# EAGLE library part LTC3634 (library PowerProducts)
LT-Spice library generated with : ltspice.ulp from: D:/Program Files (x86)/LTC/LTspiceIV/lib/sym/PowerProducts/LTC3642*.asy at 07.10.2012 18:27:42
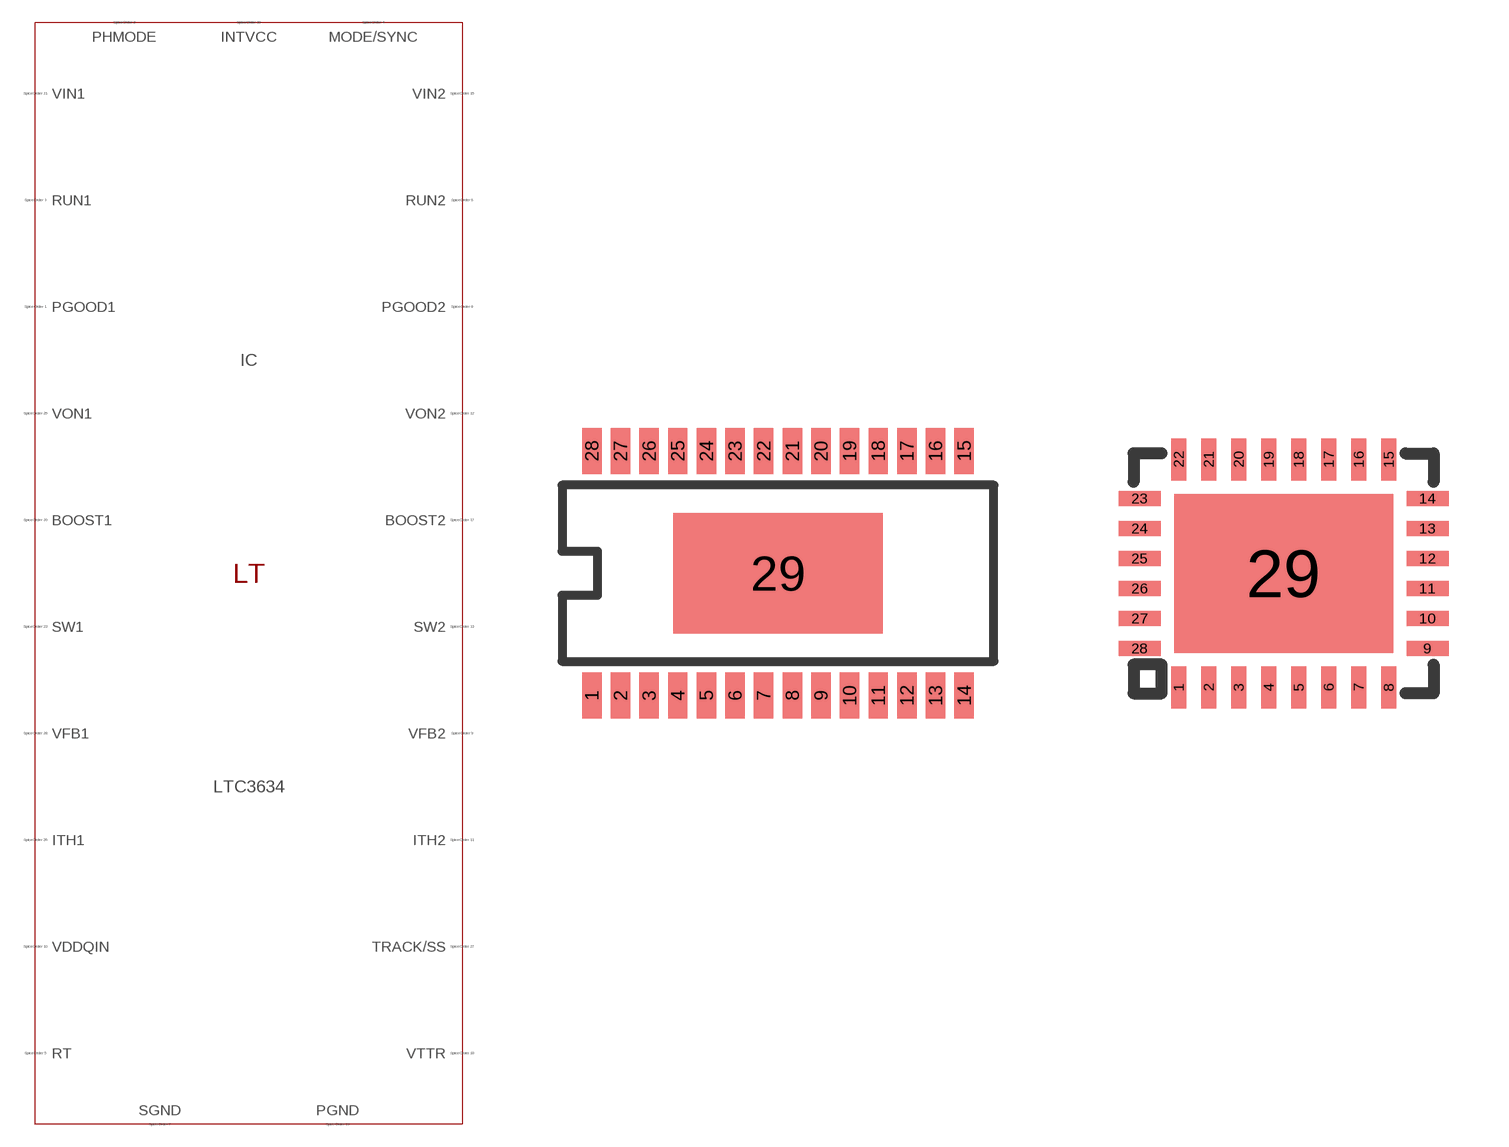
[diagram p274: symbol with the pads of TSSOP28EB(FE); footprints TSSOP28EB(FE), QFN28(UFD)]

Designator prefix IC

## LTC3634 (SPICEMODEL: LTC3634.sub; SPICEPREFIX: X; VALUE2: LTC3634)  [TSSOP28EB(FE)]
1  ITH1  pas
2  TRACK/SS  pas
3  VFB1  pas
4  PGOOD1  pas
5  PHMODE  pas
6  RUN1  pas
7  MODE/SYNC  pas
8  RT  pas
9  RUN2  pas
10  SGND  pas
11  PGOOD2  pas
12  VFB2  pas
13  VDDQIN  pas
14  ITH2  pas
15  VON2  pas
16  SW2  pas
17  SW2  pas
18  VIN2  pas
19  VIN2  pas
20  BOOST2  pas
21  VTTR  pas
22  INTVCC  pas
23  BOOST1  pas
24  VIN1  pas
25  VIN1  pas
26  SW1  pas
27  SW1  pas
28  VON1  pas
29  PGND  pas

## LTC3634UFD (SPICEMODEL: LTC3634.sub; SPICEPREFIX: X; VALUE2: LTC3634)  [QFN28(UFD)]
1  PGOOD1  pas
2  PHMODE  pas
3  RUN1  pas
4  MODE/SYNC  pas
5  RT  pas
6  RUN2  pas
7  SGND  pas
8  PGOOD2  pas
9  VFB2  pas
10  VDDQIN  pas
11  ITH2  pas
12  VON2  pas
13  SW2  pas
14  SW2  pas
15  VIN2  pas
16  VIN2  pas
17  BOOST2  pas
18  VTTR  pas
19  INTVCC  pas
20  BOOST1  pas
21  VIN1  pas
22  VIN1  pas
23  SW1  pas
24  SW1  pas
25  VON1  pas
26  ITH1  pas
27  TRACK/SS  pas
28  VFB1  pas
29  PGND  pas

## Footprint TSSOP28EB(FE) (pad centres in mm)
Package generated from: TSSOP28EB(FE).asc (!PADS-POWERPCB-V5.0-BASIC! DESIGN DATABASE ASCII FILE 1.0) with :import-pads-powerpcb-v5.ulp Version 1.0.1 at 04.10.2012 14:11:40
smd 0.66 x 1.575: 1 -6.338,-4.162; 2 -5.362,-4.162; 3 -4.388,-4.162; 4 -3.413,-4.162; 5 -2.438,-4.162; 6 -1.462,-4.162; 7 -0.487,-4.162; 8 0.487,-4.162; 9 1.462,-4.162; 10 2.438,-4.162; 11 3.413,-4.162; 12 4.388,-4.162; 13 5.362,-4.162; 14 6.338,-4.162; 15 6.338,4.162; 16 5.362,4.162; 17 4.388,4.162; 18 3.413,4.162; 19 2.438,4.162; 20 1.462,4.162; 21 0.487,4.162; 22 -0.487,4.162; 23 -1.462,4.162; 24 -2.438,4.162; 25 -3.413,4.162; 26 -4.388,4.162; 27 -5.362,4.162; 28 -6.338,4.162
smd 7.125 x 4.11: 29 0,0

## Footprint QFN28(UFD) (pad centres in mm)
Package generated from: QFN28(UFD).asc (!PADS-POWERPCB-V5.0-BASIC! DESIGN DATABASE ASCII FILE 1.0) with :import-pads-powerpcb-v5.ulp Version 1.0.1 at 04.10.2012 14:11:25
smd 0.375 x 1.05: 1 -2.625,-2.85; 2 -1.875,-2.85; 3 -1.125,-2.85; 4 -0.375,-2.85; 5 0.375,-2.85; 6 1.125,-2.85; 7 1.875,-2.85; 8 2.625,-2.85; 15 2.625,2.85; 16 1.875,2.85; 17 1.125,2.85; 18 0.375,2.85; 19 -0.375,2.85; 20 -1.125,2.85; 21 -1.875,2.85; 22 -2.625,2.85
smd 1.05 x 0.375: 9 3.6,-1.875; 10 3.6,-1.125; 11 3.6,-0.375; 12 3.6,0.375; 13 3.6,1.125; 14 3.6,1.875; 23 -3.6,1.875; 24 -3.6,1.125; 25 -3.6,0.375; 26 -3.6,-0.375; 27 -3.6,-1.125; 28 -3.6,-1.875
smd 5.475 x 3.975: 29 0,0